# EAGLE library part ST1S41 (library comma.ai)
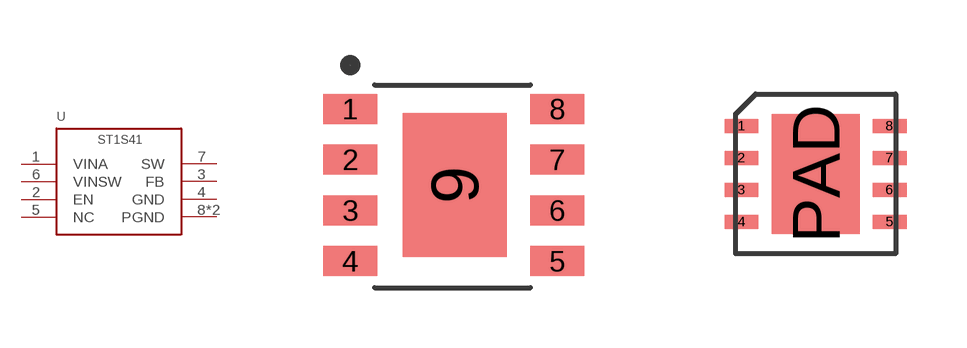
[diagram p22: symbol with the pads of HTSOP-J8; footprints HTSOP-J8, QFPN8]

Designator prefix U

## ST1S41SOIC  [HTSOP-J8]
1  VINA
2  EN
3  FB
4  GND
5  NC
6  VINSW
7  SW
8  PGND
9  PGND

## ST1S41QFPN  [QFPN8]
1  VINA
2  EN
3  FB
4  GND
5  NC
6  VINSW
7  SW
8  PGND
PAD  PGND

## Footprint HTSOP-J8 (pad centres in mm)
smd 1.35 x 0.75: 1 0,0; 2 0,-1.27; 3 0,-2.54; 4 0,-3.81; 5 5.17,-3.81; 6 5.17,-2.54; 7 5.17,-1.27; 8 5.17,0
smd 2.6 x 3.6: 9 2.6,-1.9

## Footprint QFPN8 (pad centres in mm)
smd 0.85 x 0.35: 1 -1.85,1.2; 2 -1.85,0.4; 3 -1.85,-0.4; 4 -1.85,-1.2; 5 1.85,-1.2; 6 1.85,-0.4; 7 1.85,0.4; 8 1.85,1.2
smd 2.2 x 3: PAD 0,0